# EAGLE library part HDMIULC6-4SC6Y (library ds_ic_peripherals)
Automotive ultralarge bandwidth ESD protection
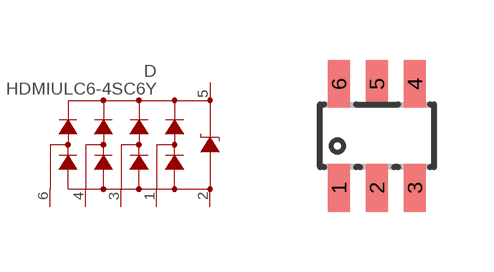
[diagram p23: symbol with the pads of SOT23-6; footprint SOT23-6]

Designator prefix D

## HDMIULC6-4SC6Y  [SOT23-6]
1  1
2  2  pwr
3  3
4  4
5  5  pwr
6  6

## Footprint SOT23-6 (pad centres in mm)
smd 0.55 x 1.2: 1 -0.95,-1.3; 2 0,-1.3; 3 0.95,-1.3; 4 0.95,1.3; 5 0,1.3; 6 -0.95,1.3